# EAGLE library part NX-PCAL6408A (library FaBo-Mems)
NXP PCAL6408A
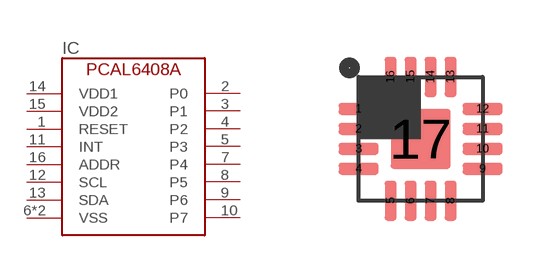
[diagram p13: symbol with the pads of NXP-PCAL6408A; footprint NXP-PCAL6408A]

Designator prefix IC

## NX-PCAL6408A  [NXP-PCAL6408A]
1  RESET
2  P0
3  P1
4  P2
5  P3
6  VSS
7  P4
8  P5
9  P6
10  P7
11  INT
12  SCL
13  SDA
14  VDD1
15  VDD2
16  ADDR
17  VSS

## Footprint NXP-PCAL6408A (pad centres in mm)
smd 1 x 0.3: 1 -1.55,0.75; 2 -1.55,0.25; 3 -1.55,-0.25; 4 -1.55,-0.75; 9 1.55,-0.75; 10 1.55,-0.25; 11 1.55,0.25; 12 1.55,0.75
smd 0.3 x 1: 5 -0.75,-1.55; 6 -0.25,-1.55; 7 0.25,-1.55; 8 0.75,-1.55; 13 0.75,1.55; 14 0.25,1.55; 15 -0.25,1.55; 16 -0.75,1.55
smd 1.5 x 1.5: 17 0,0